# Altium footprint library diplomPCB.pcblib: 19 footprints (part 2 of 2)
Each footprint in its own frame and in the unit in brackets; x right, y up, seen from the top. Pads: shape width x height; smd on the part's side, far side on the other; paste and mask are expansions set on the pad; w line width, h text height; cw(c..) or ccw(c..) is an arc to the next point about the centre after c.
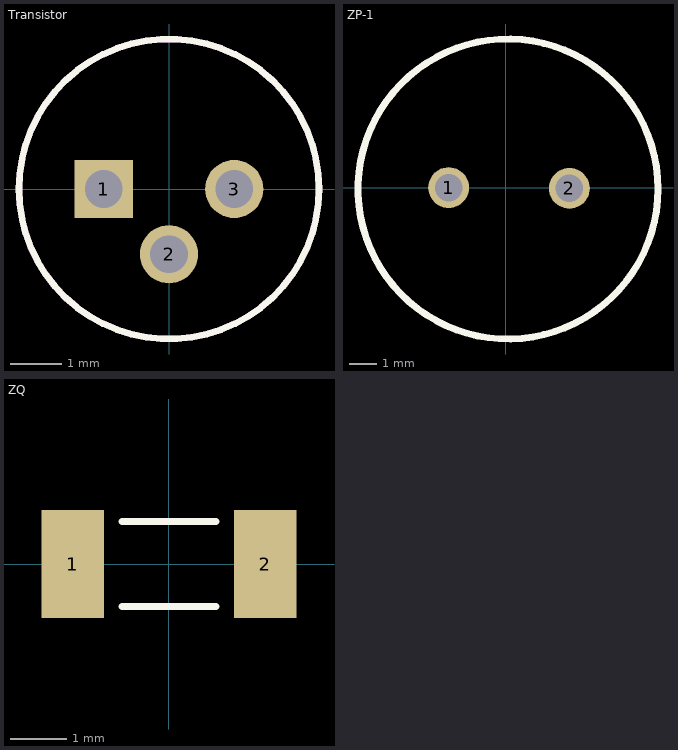
[diagram p1: the footprints below, top view; thin cyan lines are the x and y axes]

## Transistor [mm]
pads (3):
  rect 1.13x1.13 hole 0.73: 1(-1.27,0)
  round 1.13 hole 0.73: 2(0,-1.27) 3(1.27,0)
Top Overlay:
  circle w0.127: c0,0 r2.92
Mechanical 13:
  circle w0.127: c0,0 r2.92

## ZP-1 [mm]
pads (2):
  round 1.5 hole 1: 1(-2.1,0) 2(2.325,-0.025)
Top Overlay:
  circle w0.254: c0.075,-0.05 r5.5

## ZQ [mm]
pads (2):
  rect 1.1x1.9 smd: 1(-1.7,0) 2(1.7,0)
Top Overlay:
  lines w0.127: -0.83,-0.75 0.83,-0.75 ; -0.83,0.75 0.83,0.75